# Altium footprint library ModularPayload.PcbLib: 37 footprints (part 2 of 3)
Each footprint in its own frame and in the unit in brackets; x right, y up, seen from the top. Pads: shape width x height; smd on the part's side, far side on the other; paste and mask are expansions set on the pad; w line width, h text height; cw(c..) or ccw(c..) is an arc to the next point about the centre after c.
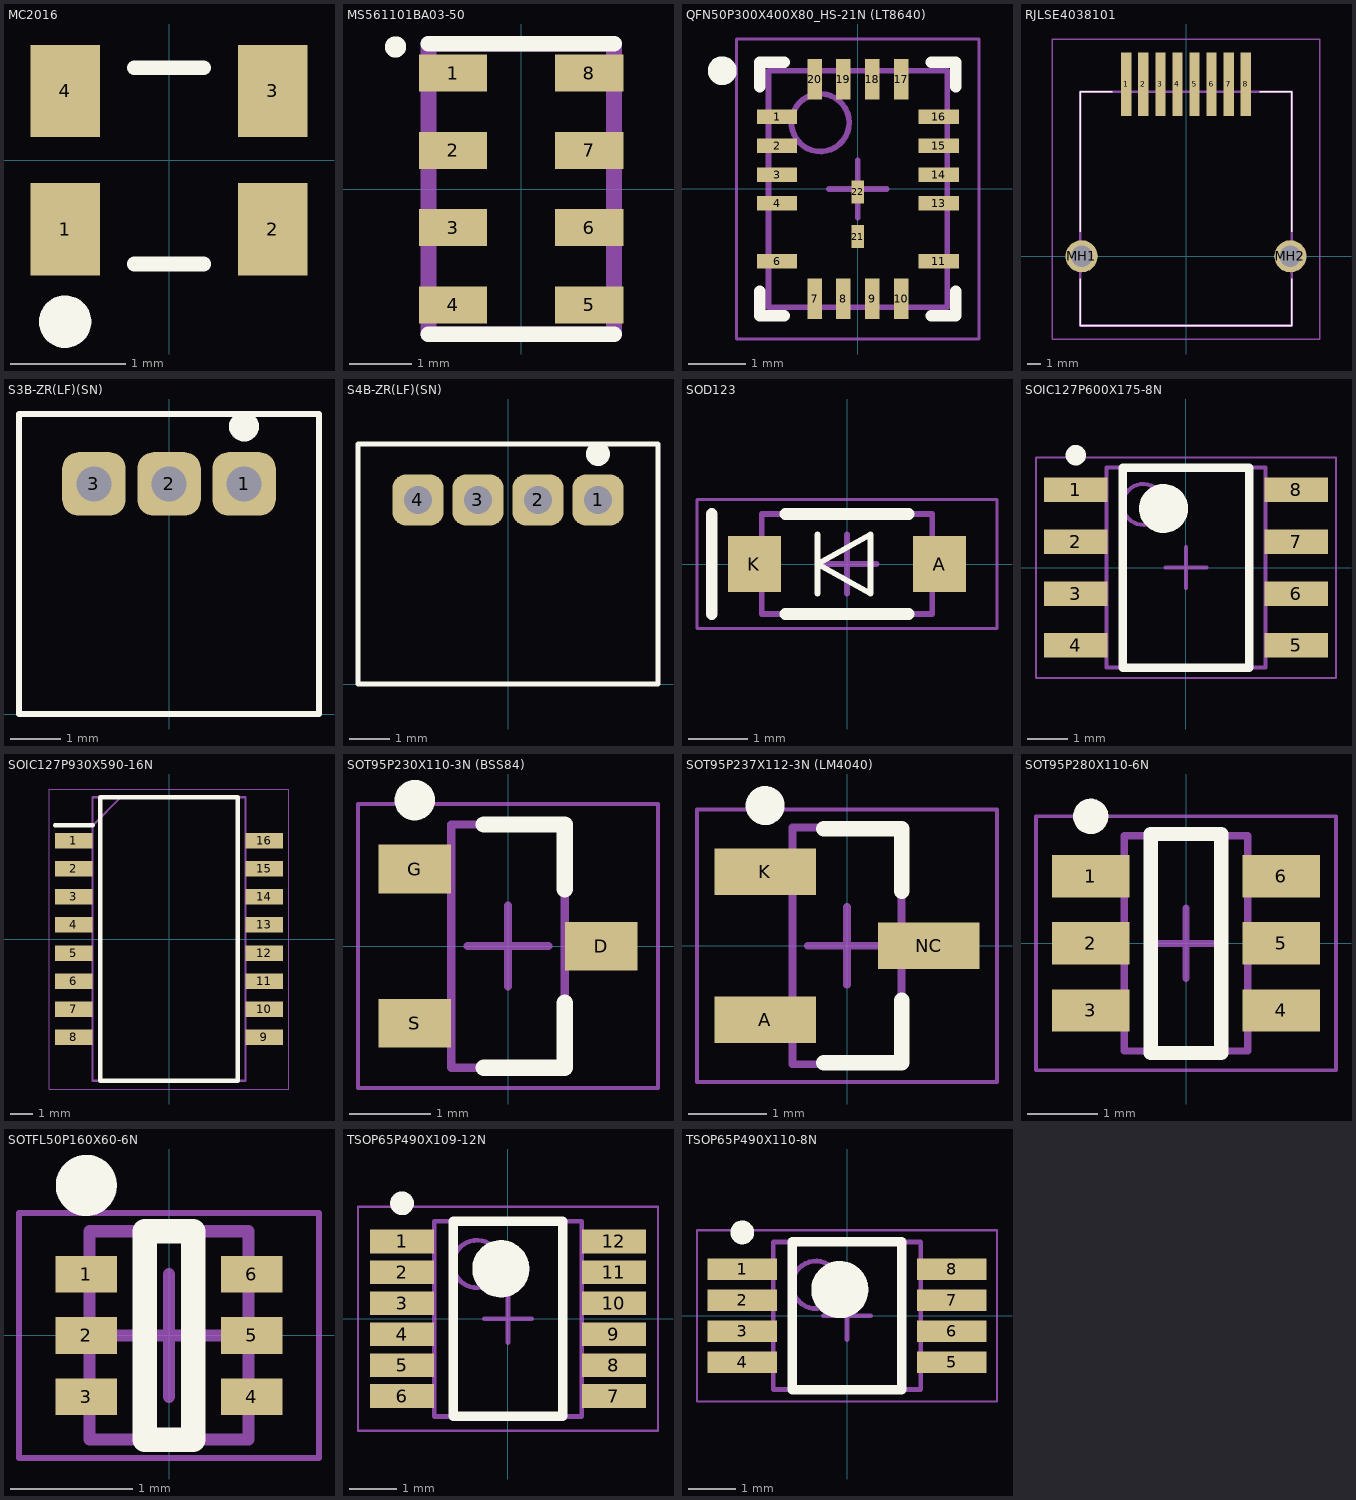
[diagram p1: the footprints below, top view; thin cyan lines are the x and y axes]

## M2115-3005-SS [mm]
3D body "M2115-3005-SS.x_t": height 20, standoff -4.76, extent -2.25,-2.59 2.25,2.59

## MC2016 [mm]
height 0.8
pads (4):
  rect 0.6x0.8 smd: 1(-0.9,-0.6) 2(0.9,-0.6) 3(0.9,0.6) 4(-0.9,0.6)
Top Overlay:
  circle w0.254: c-0.9,-1.4 r0.1
  lines w0.127: -0.3,-0.9 0.3,-0.9 ; -0.3,0.8 0.3,0.8
3D body "User Library-CX2016DB16000D0GPSC1.STEP": height 0.4, standoff 0, extent -1,-0.8 1,0.8

## MS561101BA03-50 [mm]
pads (8):
  rect 1.1x0.6 smd: 1(-1.1,1.875) 2(-1.1,0.625) 3(-1.1,-0.625) 4(-1.1,-1.875) 5(1.1,-1.875) 6(1.1,-0.625) 7(1.1,0.625) 8(1.1,1.875)
Top Overlay:
  circle w0.254: c-2.032,2.297 r0.045
  lines w0.254: -1.5,-2.35 1.5,-2.35 ; -1.5,2.35 1.5,2.35
Mechanical 13:
  lines w0.254: -1.5,-2.35 -1.5,2.35 1.5,2.35 1.5,-2.35 -1.5,-2.35
3D body "MS561101BA03-50.stp": height 1, standoff 0.05, extent -1.5,-2.5 1.5,2.5

## QFN50P300X400X80_HS-21N (LT8640) [mm] "QFN, 20-Leads, Body 3.00x4.00mm, Pitch 0.50mm, Thermal Pad 1.00x1.00mm, IPC Medium Density"
height 0.8
pads (20):
  rect 0.7x0.25 smd: 1(-1.4,1.25) 2(-1.4,0.75) 3(-1.4,0.25) 4(-1.4,-0.25) 6(-1.4,-1.25) 11(1.4,-1.25) 13(1.4,-0.25) 14(1.4,0.25) 15(1.4,0.75) 16(1.4,1.25)
  rect 0.25x0.7 smd: 7(-0.75,-1.9) 8(-0.25,-1.9) 9(0.25,-1.9) 10(0.75,-1.9) 17(0.75,1.9) 18(0.25,1.9) 19(-0.25,1.9) 20(-0.75,1.9)
  rect 0.22x0.4 smd: 21(0,-0.825) 22(0,-0.05)
Top Overlay:
  circle w0.25: c-2.35,2.05 r0.125
  lines w0.2: -1.7,-1.775 -1.7,-2.2 -1.275,-2.2 ; -1.7,1.775 -1.7,2.2 -1.275,2.2 ; 1.275,-2.2 1.7,-2.2 1.7,-1.775 ; 1.275,2.2 1.7,2.2 1.7,1.775
Mechanical 13:
  circle w0.1: c-0.65,1.15 r0.5
  lines w0.1: -1.55,-2.05 1.55,-2.05 1.55,2.05 -1.55,2.05 -1.55,-2.05
Mechanical 15:
  lines w0.05: -2.1,-2.6 2.1,-2.6 2.1,2.6 -2.1,2.6 -2.1,-2.6
  lines w0.1: -0.5,0 0.5,0 ; 0,-0.5 0,0.5
3D body "QFN50P300X400X80_HS-21N (LT8640).step": height 0.8, standoff 0, extent -1.6,-2.1 1.6,2.1

## RJLSE4038101 [mm]
pads (10):
  rect 0.76x4.75 smd: 1(-4.445,12.8) 2(-3.175,12.8) 3(-1.905,12.8) 4(-0.635,12.8) 5(0.635,12.8) 6(1.905,12.8) 7(3.175,12.8) 8(4.445,12.8)
  round 2.4 hole 1.6: MH1(-7.77,0) MH2(7.77,0)
Top Overlay:
  lines w0.1: -7.87,-1.68 -7.87,-5.16 7.87,-5.16 7.87,-1.68 ; -7.87,1.82 -7.87,12.24 -5.5,12.24 ; 5.5,12.24 7.87,12.24 7.87,1.82
Mechanical 13:
  lines w0.2: -7.87,-5.16 -7.87,12.24 7.87,12.24 7.87,-5.16 -7.87,-5.16
Mechanical 15:
  lines w0.1: -9.97,-6.16 -9.97,16.175 9.97,16.175 9.97,-6.16 -9.97,-6.16
3D body "RJLSE4038101.stp": height 11.95, standoff -5, extent -8.464,-5.16 8.47,15.099

## S3B-ZR(LF)(SN) [mm]
height 3.7
pads (3):
  rrect50% 1.27x1.27 hole 0.7: 1(1.5,4.6) 2(0,4.6) 3(-1.5,4.6)
Top Overlay:
  circle w0.3: c1.5,5.75 r0.15
  lines w0.127: -3,0 3,0 3,6 -3,6 -3,0
3D body "S3B-ZR.STEP": height 3.7, standoff -2.7, extent -3,0 3,6

## S4B-ZR(LF)(SN) [mm]
height 3.7
pads (4):
  rrect50% 1.27x1.27 hole 0.7: 1(2.25,4.6) 2(0.75,4.6) 3(-0.75,4.6) 4(-2.25,4.6)
Top Overlay:
  circle w0.3: c2.25,5.75 r0.15
  lines w0.127: -3.75,0 -3.75,6 3.75,6 3.75,0 -3.75,0
3D body "S4B-ZR.STEP": height 3.7, standoff -2.7, extent -3.75,0 3.75,6

## SOD123 [mm] "SOD123 2-Leads, Body 1.55x2.70mm, Pitch 0.50mm, IPC Medium Density"
height 1.45
pads (2):
  rect 0.9x0.95 smd: A(1.575,0) K(-1.575,0)
Top Overlay:
  lines w0.1: -0.5,-0.5 -0.5,0.5 ; 0.4,-0.5 0.4,0.5 ; 0.4,-0.5 0.4,0.5 ; 0.4,-0.5 -0.5,0 0.4,0.5
  lines w0.2: -2.3,-0.85 -2.3,0.85 ; -1.05,-0.85 1.05,-0.85 ; -1.05,0.85 1.05,0.85
Mechanical 13:
  lines w0.1: -1.45,-0.85 1.45,-0.85 1.45,0.85 -1.45,0.85 -1.45,-0.85
Mechanical 15:
  lines w0.05: -2.55,-1.1 2.55,-1.1 2.55,1.1 -2.55,1.1 -2.55,-1.1
  lines w0.1: -0.5,0 0.5,0 ; 0,-0.5 0,0.5
3D body "SOD123.step": height 1.45, standoff 0, extent -1.849,-0.85 1.849,0.85

## SOIC127P600X175-8N [mm] "SOIC, 8-Leads, Body 4.90x3.90mm, Pitch 1.27mm, IPC Medium Density"
height 1.75
pads (8):
  rect 1.55x0.6 smd: 1(-2.7,1.905) 2(-2.7,0.635) 3(-2.7,-0.635) 4(-2.7,-1.905) 5(2.7,-1.905) 6(2.7,-0.635) 7(2.7,0.635) 8(2.7,1.905)
Top Overlay:
  circle w0.6: c-0.55,1.45 r0.3
  circle w0.25: c-2.7,2.755 r0.125
  lines w0.2: -1.55,-2.45 1.55,-2.45 1.55,2.45 -1.55,2.45 -1.55,-2.45
Mechanical 13:
  circle w0.1: c-1.05,1.55 r0.5
  lines w0.1: -1.95,-2.45 1.95,-2.45 1.95,2.45 -1.95,2.45 -1.95,-2.45
Mechanical 15:
  lines w0.05: -3.675,-2.7 3.675,-2.7 3.675,2.7 -3.675,2.7 -3.675,-2.7
  lines w0.1: -0.5,0 0.5,0 ; 0,-0.5 0,0.5
3D body "SOIC127P600X175-8N.step": height 1.75, standoff 0, extent -3,-2.45 3,2.45

## SOIC127P930X590-16N [mm]
pads (16):
  rect 1.7x0.7 smd: 1(-4.3,4.445) 2(-4.3,3.175) 3(-4.3,1.905) 4(-4.3,0.635) 5(-4.3,-0.635) 6(-4.3,-1.905) 7(-4.3,-3.175) 8(-4.3,-4.445) 9(4.3,-4.445) 10(4.3,-3.175) 11(4.3,-1.905) 12(4.3,-0.635) 13(4.3,0.635) 14(4.3,1.905) 15(4.3,3.175) 16(4.3,4.445)
Top Overlay:
  lines w0.2: -5.15,5.145 -3.45,5.145 ; -3.1,-6.4 -3.1,6.4 3.1,6.4 3.1,-6.4 -3.1,-6.4
Mechanical 13:
  lines w0.1: -3.45,5.13 -2.18,6.4 ; -3.45,-6.4 -3.45,6.4 3.45,6.4 3.45,-6.4 -3.45,-6.4
Mechanical 15:
  lines w0.05: -5.4,-6.775 -5.4,6.775 5.4,6.775 5.4,-6.775 -5.4,-6.775
3D body "PT61018AAPEL-S.stp": height 5.9, standoff 0, extent -4.65,-6.4 4.65,6.4

## SOT95P230X110-3N (BSS84) [mm] "SOT23, 3-Leads, Body 2.90x2.30mm, Pitch 0.95mm, IPC Medium Density"
height 1.1
pads (3):
  rect 0.9x0.6 smd: D(1.15,0) G(-1.15,0.95) S(-1.15,-0.95)
Top Overlay:
  circle w0.25: c-1.15,1.8 r0.125
  lines w0.2: -0.3,-1.5 0.7,-1.5 0.7,-0.7 ; -0.3,1.5 0.7,1.5 0.7,0.7
Mechanical 13:
  lines w0.1: -0.7,-1.5 -0.7,1.5 0.7,1.5 0.7,-1.5 -0.7,-1.5
Mechanical 15:
  lines w0.05: -1.85,-1.75 -1.85,1.75 1.85,1.75 1.85,-1.75 -1.85,-1.75
  lines w0.1: -0.5,0 0.5,0 ; 0,-0.5 0,0.5
3D body "SOT95P230X110-3N (BSS84).step": height 1.1, standoff 0, extent -1.3,-1.5 1.3,1.5

## SOT95P237X112-3N (LM4040) [mm] "SOT23, 3-Leads, Body 2.92x2.37mm, Pitch 0.95mm, IPC Medium Density"
height 1.12
pads (3):
  rect 1.3x0.6 smd mask+0.07: A(-1.05,-0.95) K(-1.05,0.95) NC(1.05,0)
Top Overlay:
  circle w0.25: c-1.05,1.8 r0.125
  lines w0.2: -0.3,-1.5 0.7,-1.5 0.7,-0.7 ; -0.3,1.5 0.7,1.5 0.7,0.7
Mechanical 13:
  lines w0.1: -0.7,-1.52 -0.7,1.52 0.7,1.52 0.7,-1.52 -0.7,-1.52
Mechanical 15:
  lines w0.05: -1.925,-1.75 -1.925,1.75 1.925,1.75 1.925,-1.75 -1.925,-1.75
  lines w0.1: -0.5,0 0.5,0 ; 0,-0.5 0,0.5
3D body "SOT95P237X112-3N.step": height 1.12, standoff 0, extent -1.32,-1.52 1.32,1.52

## SOT95P280X110-6N [mm] "SOT23, 6-Leads, Body 2.90x2.80mm, Pitch 0.95mm, IPC Medium Density"
height 1.1
pads (6):
  rect 1.1x0.6 smd mask+0.06: 1(-1.35,0.95) 2(-1.35,0) 3(-1.35,-0.95) 4(1.35,-0.95) 5(1.35,0) 6(1.35,0.95)
Top Overlay:
  circle w0.25: c-1.35,1.8 r0.125
  lines w0.2: -0.5,-1.55 -0.5,1.55 0.5,1.55 0.5,-1.55 -0.5,-1.55
Mechanical 13:
  lines w0.1: -0.875,-1.525 0.875,-1.525 0.875,1.525 -0.875,1.525 -0.875,-1.525
Mechanical 15:
  lines w0.05: -2.125,-1.8 2.125,-1.8 2.125,1.8 -2.125,1.8 -2.125,-1.8
  lines w0.1: -0.5,0 0.5,0 ; 0,-0.5 0,0.5
3D body "SOT95P280X110-6N.step": height 1.1, standoff 0, extent -1.525,-1.525 1.525,1.525

## SOTFL50P160X60-6N [mm] "SOTFL, 6-Leads, Body 1.60x1.60mm, Pitch 0.50mm, IPC Medium Density"
height 0.6
pads (6):
  rect 0.5x0.3 smd mask+0.051: 1(-0.675,0.5) 2(-0.675,0) 3(-0.675,-0.5) 4(0.675,-0.5) 5(0.675,0) 6(0.675,0.5)
Top Overlay:
  circle w0.25: c-0.675,1.225 r0.125
  lines w0.2: -0.2,-0.85 0.2,-0.85 0.2,0.85 -0.2,0.85 -0.2,-0.85
Mechanical 13:
  lines w0.1: -0.65,-0.85 -0.65,0.85 0.65,0.85 0.65,-0.85 -0.65,-0.85
Mechanical 15:
  lines w0.05: -1.225,-1 -1.225,1 1.225,1 1.225,-1 -1.225,-1
  lines w0.1: -0.5,0 0.5,0 ; 0,-0.5 0,0.5
3D body "SOTFL50P160X60-6N.step": height 0.6, standoff 0, extent -0.8,-0.848 0.8,0.848

## TSOP65P490X109-12N [mm] "TSOP, 12-Leads, Body 4.04x3.00mm, Pitch 0.65mm, IPC Medium Density"
height 1.1
pads (12):
  rect 1.35x0.5 smd mask+0.05: 1(-2.225,1.625) 2(-2.225,0.975) 3(-2.225,0.325) 4(-2.225,-0.325) 5(-2.225,-0.975) 6(-2.225,-1.625) 7(2.225,-1.625) 8(2.225,-0.975) 9(2.225,-0.325) 10(2.225,0.325) 11(2.225,0.975) 12(2.225,1.625)
Top Overlay:
  circle w0.6: c-0.15,1.05 r0.3
  circle w0.25: c-2.225,2.425 r0.125
  lines w0.2: -1.15,-2.05 1.15,-2.05 1.15,2.05 -1.15,2.05 -1.15,-2.05
Mechanical 13:
  circle w0.1: c-0.65,1.15 r0.5
  lines w0.1: -1.55,-2.05 1.55,-2.05 1.55,2.05 -1.55,2.05 -1.55,-2.05
Mechanical 15:
  lines w0.05: -3.15,-2.35 3.15,-2.35 3.15,2.35 -3.15,2.35 -3.15,-2.35
  lines w0.1: -0.5,0 0.5,0 ; 0,-0.5 0,0.5
3D body "TSOP65P490X109-12N.step": height 1.09, standoff 0, extent -2.451,-2.05 2.451,2.05

## TSOP65P490X110-8N [mm] "TSOP, 8-Leads, Body 3.00x3.00mm, Pitch 0.65mm, IPC Medium Density"
height 1.1
pads (8):
  rect 1.45x0.45 smd mask+0.05: 1(-2.2,0.975) 2(-2.2,0.325) 3(-2.2,-0.325) 4(-2.2,-0.975) 5(2.2,-0.975) 6(2.2,-0.325) 7(2.2,0.325) 8(2.2,0.975)
Top Overlay:
  circle w0.6: c-0.15,0.55 r0.3
  circle w0.25: c-2.2,1.75 r0.125
  lines w0.2: -1.15,-1.55 1.15,-1.55 1.15,1.55 -1.15,1.55 -1.15,-1.55
Mechanical 13:
  circle w0.1: c-0.65,0.65 r0.5
  lines w0.1: -1.55,-1.55 1.55,-1.55 1.55,1.55 -1.55,1.55 -1.55,-1.55
Mechanical 15:
  lines w0.05: -3.15,-1.8 3.15,-1.8 3.15,1.8 -3.15,1.8 -3.15,-1.8
  lines w0.1: -0.5,0 0.5,0 ; 0,-0.5 0,0.5
3D body "TSOP65P490X110-8N.step": height 1.1, standoff 0, extent -2.45,-1.55 2.45,1.55